# EAGLE library part AD5933 (library parts)
1 MSPS, 12-Bit Impedance Converter, Network Analyzer Applications: Electrochemical analysis Bioelectrical impedance analysis Impedance spectroscopy Complex impedance measurement Corrosion monitoring and protection equipment Biomedical and automotive sensors Proximity sensing Nondestructive testing Material property analysis Fuel/battery cell condition monitoring source <http://www.analog.com/static/imported-files/data_sheets/AD5933.pdf>
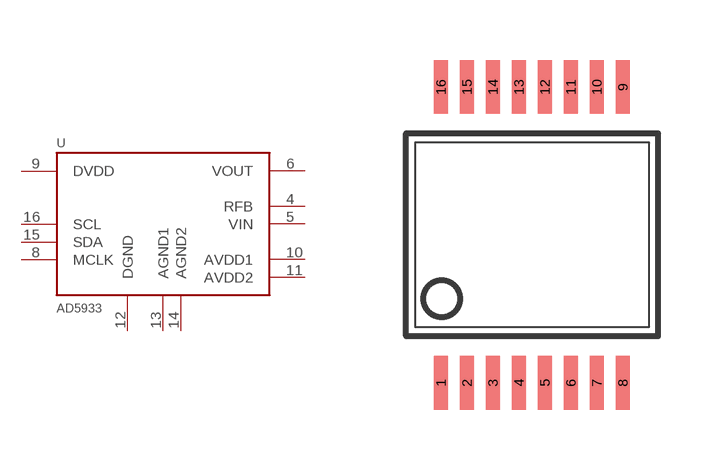
[diagram p0: symbol with the pads of SSOP16; footprint SSOP16]

Designator prefix U

## AD5933YRS (RS: 709-4816)  [SSOP16]
4  RFB
5  VIN
6  VOUT
8  MCLK
9  DVDD
10  AVDD1
11  AVDD2
12  DGND
13  AGND1
14  AGND2
15  SDA
16  SCL

## Footprint SSOP16 (pad centres in mm)
16-Lead Shrink Small Outline Package (SSOP) Source: www.analog.com <http://www.analog.com/en/technical-library/packages/sop-small-outline-package/ssop-shrink-so/index.html>
smd 0.35 x 1.35: 1 -2.275,-3.7; 2 -1.625,-3.7; 3 -0.975,-3.7; 4 -0.325,-3.7; 5 0.325,-3.7; 6 0.975,-3.7; 7 1.625,-3.7; 8 2.275,-3.7; 9 2.275,3.7; 10 1.625,3.7; 11 0.975,3.7; 12 0.325,3.7; 13 -0.325,3.7; 14 -0.975,3.7; 15 -1.625,3.7; 16 -2.275,3.7